# EAGLE library part SI3402 (library BaseApp)
FULLY-INTEGRATED 802.3-COMPLIANT POE PD INTERFACE AND LOW-EMI SWITCHING REGULATOR Digikey No :- __SI3402-A-GMR-ND__
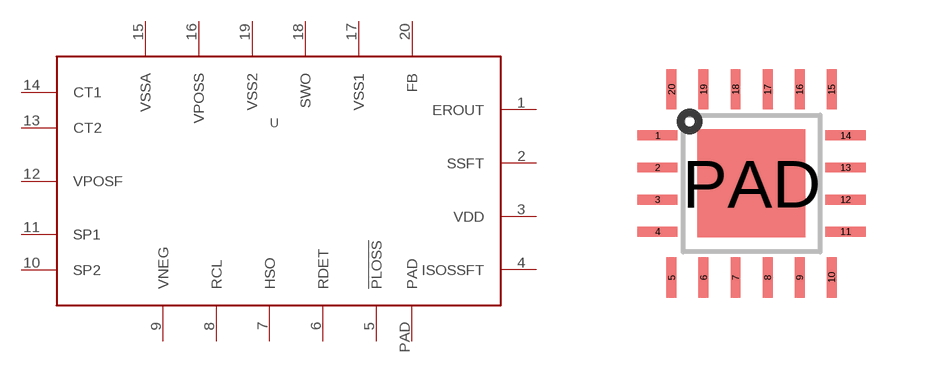
[diagram p111: symbol with the pads of SI3402; footprint SI3402]

Designator prefix -

## SI3402  [SI3402]
1  EROUT
2  SSFT
3  VDD
4  ISOSSFT
5  !PLOSS
6  RDET
7  HSO
8  RCL
9  VNEG
10  SP2
11  SP1
12  VPOSF
13  CT2
14  CT1
15  VSSA
16  VPOSS
17  VSS1
18  SWO
19  VSS2
20  FB
PAD  PAD

## Footprint SI3402 (pad centres in mm)
smd 1 x 0.25: 1 -2.35,1.2; 2 -2.35,0.4; 3 -2.35,-0.4; 4 -2.35,-1.2; 11 2.35,-1.2; 12 2.35,-0.4; 13 2.35,0.4; 14 2.35,1.2
smd 0.25 x 1: 5 -2,-2.35; 6 -1.2,-2.35; 7 -0.4,-2.35; 8 0.4,-2.35; 9 1.2,-2.35; 10 2,-2.35; 15 2,2.35; 16 1.2,2.35; 17 0.4,2.35; 18 -0.4,2.35; 19 -1.2,2.35; 20 -2,2.35
smd 2.7 x 2.7: PAD 0,0